# Altium footprint library Sampler_DIOT.PcbLib: 109 footprints (part 4 of 7)
Each footprint in its own frame and in the unit in brackets; x right, y up, seen from the top. Pads: shape width x height; smd on the part's side, far side on the other; paste and mask are expansions set on the pad; w line width, h text height; cw(c..) or ccw(c..) is an arc to the next point about the centre after c.
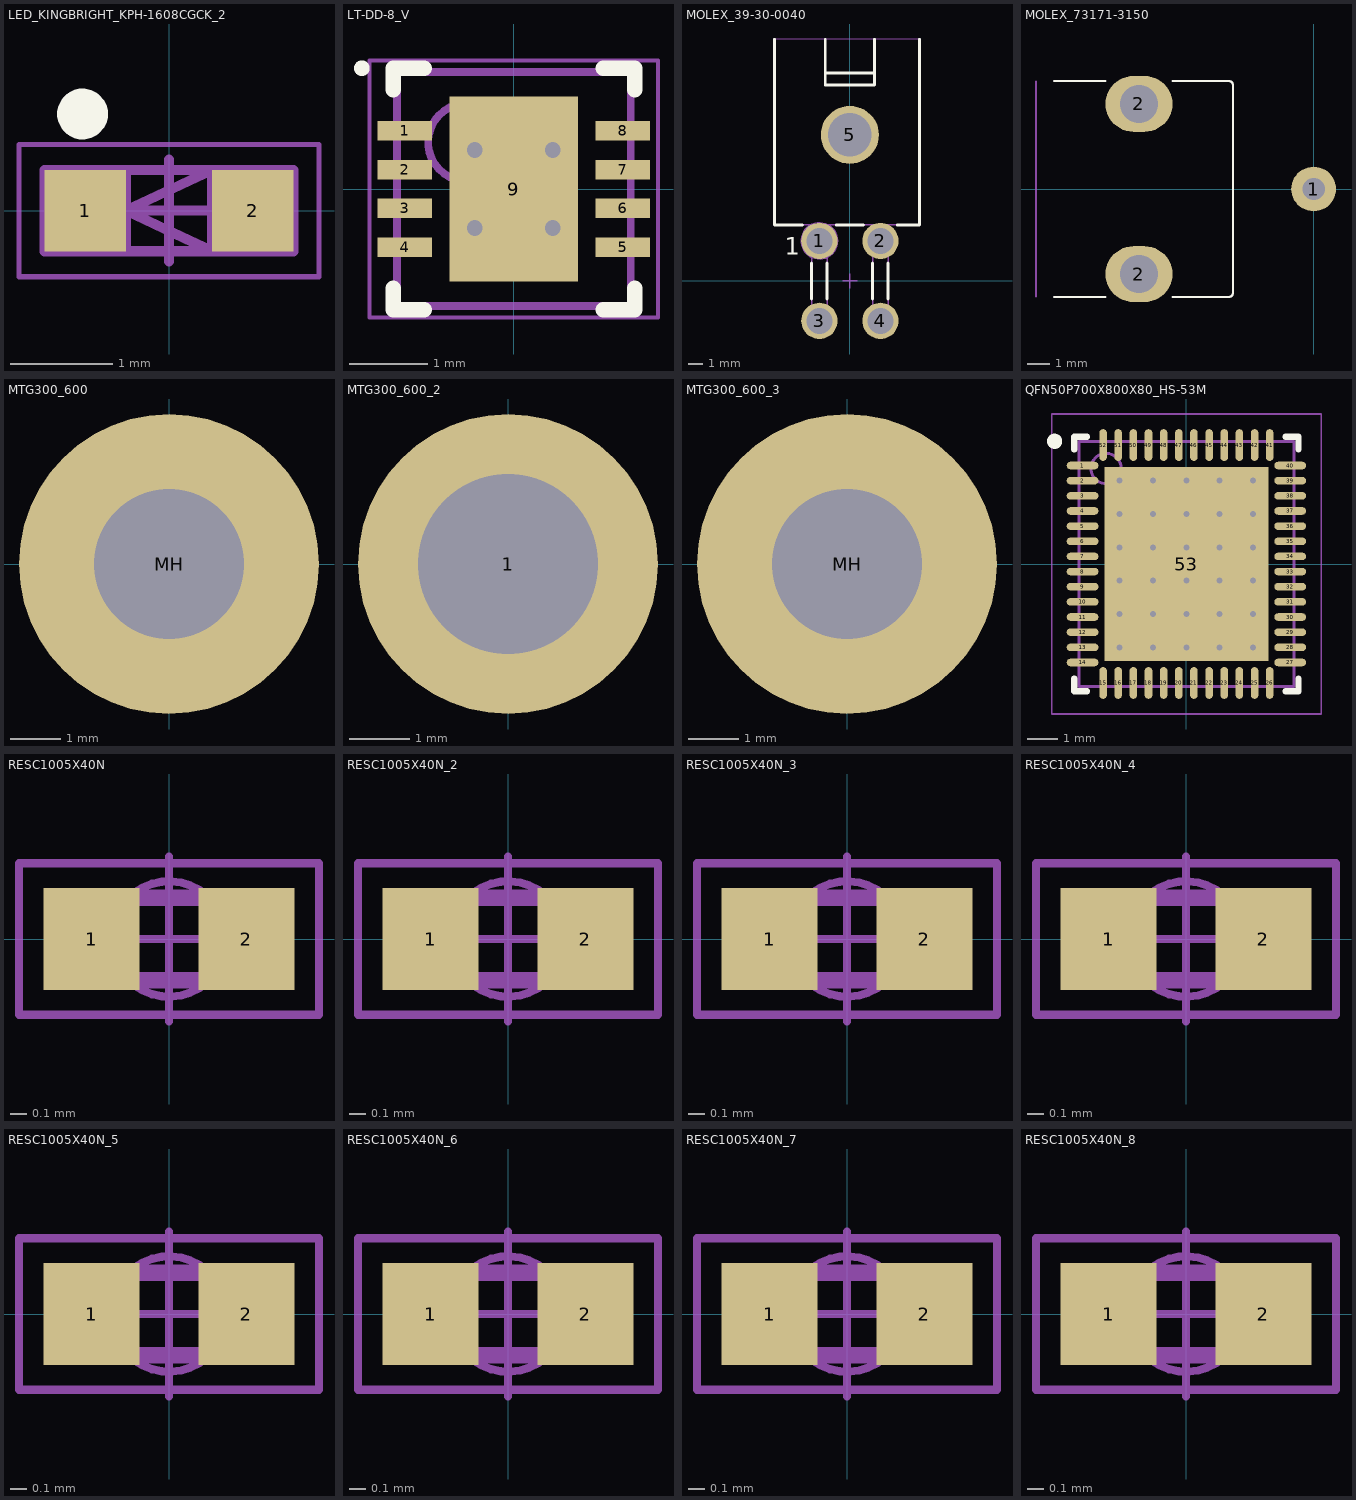
[diagram p3: the footprints below, top view; thin cyan lines are the x and y axes]

## LED_KINGBRIGHT_KPH-1608CGCK_2 [mm]
pads (2):
  rect 0.8x0.8 smd: 1(-0.825,0) 2(0.825,0)
Top Overlay:
  circle w0.25: c-0.85,0.95 r0.125
Mechanical 8:
  lines w0.1: -0.5,0 0,0 ; -0.425,0 0.425,0 ; 0,-0.5 0,0 ; 0,0.5 0,0 ; 0.5,0 0,0 ; -0.425,-0.4 -0.825,0 -0.425,0.4 ; -0.425,-0.4 -0.425,0.4 ; -0.425,-0.4 -1.225,-0.4 -1.225,0.4 -0.425,0.4 ; 1.225,-0.4 0.825,0 1.225,0.4 ; 1.225,-0.4 1.225,0.4 ; 1.225,-0.4 0.425,-0.4 0.425,0.4 1.225,0.4
Top Assembly:
  lines w0.1: -0.8,-0.4 0.8,-0.4 0.8,0.4 -0.8,0.4 -0.8,-0.4 ; -0.425,0 0.425,-0.4 0.425,0.4 -0.425,0
Top Courtyard:
  lines w0.05: -1.475,-0.65 1.475,-0.65 1.475,0.65 -1.475,0.65 -1.475,-0.65
3D body "LED_KINGBRIGHT_KPH-1608CGCK_Part2.stp": height 0.65, standoff 0.12, extent -0.6,-0.4 0.6,0.4
3D body "LED_KINGBRIGHT_KPH-1608CGCK_Part1.stp": height 0.2, standoff 0, extent -0.8,-0.4 0.8,0.4

## LT-DD-8_V [mm]
pads (9):
  rect 0.7x0.25 smd mask+0.15: 1(-1.4,0.75) 2(-1.4,0.25) 3(-1.4,-0.25) 4(-1.4,-0.75) 5(1.4,-0.75) 6(1.4,-0.25) 7(1.4,0.25) 8(1.4,0.75)
  rect 1.65x2.38 smd mask+0.2: 9(0,0)
via 0.5,-0.5 diameter 0.5 hole 0.2
via -0.5,-0.5 diameter 0.5 hole 0.2
via 0.5,0.5 diameter 0.5 hole 0.2
via -0.5,0.5 diameter 0.5 hole 0.2
Top Overlay:
  circle w0.1: c-1.95,1.55 r0.05
  lines w0.2: -1.55,-1.275 -1.55,-1.55 -1.15,-1.55 ; -1.55,1.275 -1.55,1.55 -1.15,1.55 ; 1.15,-1.55 1.55,-1.55 1.55,-1.275 ; 1.15,1.55 1.55,1.55 1.55,1.275
Top 3D Body:
  circle w0.1: c-0.6,0.6 r0.5
  lines w0.1: -1.5,-1.5 1.5,-1.5 1.5,1.5 -1.5,1.5 -1.5,-1.5
Top Courtyard:
  lines w0.05: -1.85,-1.65 1.85,-1.65 1.85,1.65 -1.85,1.65 -1.85,-1.65
  lines w0.1: -0.5,0 0.5,0 ; 0,-0.5 0,0.5
3D body: height 0.8, standoff 0, extent -1.5,-1.5 1.5,1.5

## MOLEX_39-30-0040 [mm]
pads (5):
  round 2.5 hole 1.8: 1(-2.1,2.75) 2(2.1,2.75) 3(-2.1,-2.75) 4(2.1,-2.75)
  round 4 hole 3 unplated mask+1: 5(0,10.05)
Top Overlay:
  lines w0.2: -5.2,16.63 -5.2,3.85 -3.262,3.85 ; -2.635,-1.242 -2.635,1.242 ; -1.7,14.3 1.7,14.3 ; -1.7,16.63 -1.7,13.478 1.7,13.478 1.7,16.63 ; -1.565,-1.242 -1.565,1.242 ; -0.938,3.85 0.938,3.85 ; 1.565,-1.242 1.565,1.242 ; 2.635,-1.242 2.635,1.242 ; 3.262,3.85 4.8,3.85 4.8,16.63
  text "1" at -4.475,1.8 h1.2
Mechanical 8:
  circle w0.1: c0,10.05 r1.5
  circle w0.1: c-2.1,2.75 r0.9
  circle w0.1: c-2.1,2.75 r1.25
  lines w0.1: -2.6,-2.75 -2.1,-2.75 ; -2.6,2.75 -2.1,2.75 ; -2.1,-3.25 -2.1,-2.75 ; -2.1,-2.25 -2.1,-2.75 ; -2.1,2.25 -2.1,2.75 ; -2.1,3.25 -2.1,2.75 ; -1.6,-2.75 -2.1,-2.75 ; -1.6,2.75 -2.1,2.75 ; -0.5,0 0,0 ; -0.5,10.05 0,10.05 ; 0,-0.5 0,0 ; 0,0.5 0,0 ; 0,9.55 0,10.05 ; 0,10.55 0,10.05 ; 0.5,0 0,0 ; 0.5,10.05 0,10.05 ; 1.6,-2.75 2.1,-2.75 ; 1.6,2.75 2.1,2.75 ; 2.1,-3.25 2.1,-2.75 ; 2.1,-2.25 2.1,-2.75 ; 2.1,2.25 2.1,2.75 ; 2.1,3.25 2.1,2.75 ; 2.6,-2.75 2.1,-2.75 ; 2.6,2.75 2.1,2.75
Top Assembly:
  lines w0.1: -2.635,3.85 -2.635,-3.285 -1.565,-3.285 -1.565,3.85 ; -1.7,14.3 1.7,14.3 ; -1.7,16.65 -1.7,13.478 1.7,13.478 1.7,16.65 ; 1.565,3.85 1.565,-3.285 2.635,-3.285 2.635,3.85 ; -5.2,3.85 4.8,3.85 4.8,16.65 -5.2,16.65 -5.2,3.85
  text "1" at -4.475,1.8 h1.2
3D body "MOLEX_39-30-0040.stp": height 11.4, standoff -3.6, extent -5.2,-3.285 4.8,16.65

## MOLEX_73171-3150 [mm]
pads (3):
  round 2 hole 1: 1(0,0)
  oval 3x2.5 hole 1.7: 2(-7.8,-3.8) 2(-7.8,3.8)
Top Overlay:
  lines w0.1: -11.596,-4.825 -9.3,-4.825 ; -11.596,4.825 -9.3,4.825 ; -6.3,-4.825 -3.8,-4.825 ccw(c-3.8,-4.625) -3.6,-4.625 -3.6,4.625 ccw(c-3.8,4.625) -3.8,4.825 -6.3,4.825
Top Assembly:
  lines w0.1: -12.4,-4.8 -12.4,4.8
  text "Board Edge" at -12.474,-2.308 h1
3D body "731713150.stp": height 9.3, standoff -2.99, extent -25.4,-4.825 0.15,4.825

## MTG300_600 [mm]
pads (1):
  round 6 hole 3: MH(0,0)

## MTG300_600_2 [mm]
pads (1):
  round 5 hole 3: 1(0,0)

## MTG300_600_3 [mm]
pads (1):
  round 6 hole 3: MH(0,0)

## QFN50P700X800X80_HS-53M [mm]
pads (53):
  oval 1.05x0.25 smd: 1(-3.425,3.25) 2(-3.425,2.75) 3(-3.425,2.25) 4(-3.425,1.75) 5(-3.425,1.25) 6(-3.425,0.75) 7(-3.425,0.25) 8(-3.425,-0.25) 9(-3.425,-0.75) 10(-3.425,-1.25) 11(-3.425,-1.75) 12(-3.425,-2.25) 13(-3.425,-2.75) 14(-3.425,-3.25) 27(3.425,-3.25) 28(3.425,-2.75) 29(3.425,-2.25) 30(3.425,-1.75) 31(3.425,-1.25) 32(3.425,-0.75) 33(3.425,-0.25) 34(3.425,0.25) 35(3.425,0.75) 36(3.425,1.25) 37(3.425,1.75) 38(3.425,2.25) 39(3.425,2.75) 40(3.425,3.25)
  oval 0.25x1.05 smd: 15(-2.75,-3.925) 16(-2.25,-3.925) 17(-1.75,-3.925) 18(-1.25,-3.925) 19(-0.75,-3.925) 20(-0.25,-3.925) 21(0.25,-3.925) 22(0.75,-3.925) 23(1.25,-3.925) 24(1.75,-3.925) 25(2.25,-3.925) 26(2.75,-3.925) 41(2.75,3.925) 42(2.25,3.925) 43(1.75,3.925) 44(1.25,3.925) 45(0.75,3.925) 46(0.25,3.925) 47(-0.25,3.925) 48(-0.75,3.925) 49(-1.25,3.925) 50(-1.75,3.925) 51(-2.25,3.925) 52(-2.75,3.925)
  rect 5.41x6.4 smd: 53(0,0)
via -2.2,2.75 diameter 0.5 hole 0.2
via -1.1,2.75 diameter 0.5 hole 0.2
via 0,2.75 diameter 0.5 hole 0.2
via 1.1,2.75 diameter 0.5 hole 0.2
via 2.2,2.75 diameter 0.5 hole 0.2
via -2.2,1.65 diameter 0.5 hole 0.2
via -1.1,1.65 diameter 0.5 hole 0.2
via 0,1.65 diameter 0.5 hole 0.2
via 1.1,1.65 diameter 0.5 hole 0.2
via 2.2,1.65 diameter 0.5 hole 0.2
via -2.2,0.55 diameter 0.5 hole 0.2
via -1.1,0.55 diameter 0.5 hole 0.2
via 0,0.55 diameter 0.5 hole 0.2
via 1.1,0.55 diameter 0.5 hole 0.2
via 2.2,0.55 diameter 0.5 hole 0.2
via -2.2,-0.55 diameter 0.5 hole 0.2
via -1.1,-0.55 diameter 0.5 hole 0.2
via 0,-0.55 diameter 0.5 hole 0.2
via 1.1,-0.55 diameter 0.5 hole 0.2
via 2.2,-0.55 diameter 0.5 hole 0.2
via -2.2,-1.65 diameter 0.5 hole 0.2
via -1.1,-1.65 diameter 0.5 hole 0.2
via 0,-1.65 diameter 0.5 hole 0.2
via 1.1,-1.65 diameter 0.5 hole 0.2
via 2.2,-1.65 diameter 0.5 hole 0.2
via -2.2,-2.75 diameter 0.5 hole 0.2
via -1.1,-2.75 diameter 0.5 hole 0.2
via 0,-2.75 diameter 0.5 hole 0.2
via 1.1,-2.75 diameter 0.5 hole 0.2
via 2.2,-2.75 diameter 0.5 hole 0.2
Top Overlay:
  circle w0.25: c-4.35,4.05 r0.125
  lines w0.2: -3.7,-3.775 -3.7,-4.2 -3.275,-4.2 ; -3.7,3.775 -3.7,4.2 -3.275,4.2 ; 3.275,-4.2 3.7,-4.2 3.7,-3.775 ; 3.275,4.2 3.7,4.2 3.7,3.775
Top Assembly:
  circle w0.1: c-2.65,3.15 r0.5
  lines w0.1: -3.55,-4.05 -3.55,4.05 3.55,4.05 3.55,-4.05 -3.55,-4.05
Top Courtyard:
  lines w0.05: -4.45,-4.95 -4.45,4.95 4.45,4.95 4.45,-4.95 -4.45,-4.95
  lines w0.1: -0.5,0 0.5,0 ; 0,-0.5 0,0.5
3D body "QFN50P700X800X80_HS-53M.step": height 0.8, standoff 0, extent -3.551,-4.051 3.551,4.051

## RESC1005X40N [mm]
pads (2):
  rect 0.58x0.62 smd: 1(-0.47,0) 2(0.47,0)
Top Assembly:
  lines w0.1: -0.5,-0.25 0.5,-0.25 0.5,0.25 -0.5,0.25 -0.5,-0.25
Top Courtyard:
  circle w0.05: c0,0 r0.35
  lines w0.05: -0.5,0 0.5,0 ; 0,-0.5 0,0.5 ; -0.91,-0.46 0.91,-0.46 0.91,0.46 -0.91,0.46 -0.91,-0.46
3D body "RESC1005X40N.stp": height 0.4, standoff 0, extent -0.525,-0.275 0.525,0.275

## RESC1005X40N_2 [mm]
pads (2):
  rect 0.58x0.62 smd: 1(-0.47,0) 2(0.47,0)
Top Assembly:
  lines w0.1: -0.5,-0.25 0.5,-0.25 0.5,0.25 -0.5,0.25 -0.5,-0.25
Top Courtyard:
  circle w0.05: c0,0 r0.35
  lines w0.05: -0.5,0 0.5,0 ; 0,-0.5 0,0.5 ; -0.91,-0.46 0.91,-0.46 0.91,0.46 -0.91,0.46 -0.91,-0.46
3D body "RESC1005X40N.stp": height 0.4, standoff 0, extent -0.525,-0.275 0.525,0.275

## RESC1005X40N_3 [mm]
pads (2):
  rect 0.58x0.62 smd: 1(-0.47,0) 2(0.47,0)
Top Assembly:
  lines w0.1: -0.5,-0.25 -0.5,0.25 0.5,0.25 0.5,-0.25 -0.5,-0.25
Top Courtyard:
  circle w0.05: c0,0 r0.35
  lines w0.05: -0.5,0 0.5,0 ; 0,-0.5 0,0.5 ; -0.91,-0.46 -0.91,0.46 0.91,0.46 0.91,-0.46 -0.91,-0.46
3D body "RESC1005X40N.stp": height 0.4, standoff 0, extent -0.525,-0.275 0.525,0.275

## RESC1005X40N_4 [mm]
pads (2):
  rect 0.58x0.62 smd: 1(-0.47,0) 2(0.47,0)
Top Assembly:
  lines w0.1: -0.5,-0.25 -0.5,0.25 0.5,0.25 0.5,-0.25 -0.5,-0.25
Top Courtyard:
  circle w0.05: c0,0 r0.35
  lines w0.05: -0.5,0 0.5,0 ; 0,-0.5 0,0.5 ; -0.91,-0.46 -0.91,0.46 0.91,0.46 0.91,-0.46 -0.91,-0.46
3D body "RESC1005X40N.stp": height 0.4, standoff 0, extent -0.525,-0.275 0.525,0.275

## RESC1005X40N_5 [mm]
pads (2):
  rect 0.58x0.62 smd: 1(-0.47,0) 2(0.47,0)
Top Assembly:
  lines w0.1: -0.5,-0.25 -0.5,0.25 0.5,0.25 0.5,-0.25 -0.5,-0.25
Top Courtyard:
  circle w0.05: c0,0 r0.35
  lines w0.05: -0.5,0 0.5,0 ; 0,-0.5 0,0.5 ; -0.91,-0.46 -0.91,0.46 0.91,0.46 0.91,-0.46 -0.91,-0.46
3D body "RESC1005X40N.stp": height 0.4, standoff 0, extent -0.525,-0.275 0.525,0.275

## RESC1005X40N_6 [mm]
pads (2):
  rect 0.58x0.62 smd: 1(-0.47,0) 2(0.47,0)
Top Assembly:
  lines w0.1: -0.5,-0.25 -0.5,0.25 0.5,0.25 0.5,-0.25 -0.5,-0.25
Top Courtyard:
  circle w0.05: c0,0 r0.35
  lines w0.05: -0.5,0 0.5,0 ; 0,-0.5 0,0.5 ; -0.91,-0.46 -0.91,0.46 0.91,0.46 0.91,-0.46 -0.91,-0.46
3D body "RESC1005X40N.stp": height 0.4, standoff 0, extent -0.525,-0.275 0.525,0.275

## RESC1005X40N_7 [mm]
pads (2):
  rect 0.58x0.62 smd: 1(-0.47,0) 2(0.47,0)
Top Assembly:
  lines w0.1: -0.5,-0.25 -0.5,0.25 0.5,0.25 0.5,-0.25 -0.5,-0.25
Top Courtyard:
  circle w0.05: c0,0 r0.35
  lines w0.05: -0.5,0 0.5,0 ; 0,-0.5 0,0.5 ; -0.91,-0.46 -0.91,0.46 0.91,0.46 0.91,-0.46 -0.91,-0.46
3D body "RESC1005X40N.stp": height 0.4, standoff 0, extent -0.525,-0.275 0.525,0.275

## RESC1005X40N_8 [mm]
pads (2):
  rect 0.58x0.62 smd: 1(-0.47,0) 2(0.47,0)
Top Assembly:
  lines w0.1: -0.5,-0.25 -0.5,0.25 0.5,0.25 0.5,-0.25 -0.5,-0.25
Top Courtyard:
  circle w0.05: c0,0 r0.35
  lines w0.05: -0.5,0 0.5,0 ; 0,-0.5 0,0.5 ; -0.91,-0.46 -0.91,0.46 0.91,0.46 0.91,-0.46 -0.91,-0.46
3D body "RESC1005X40N.stp": height 0.4, standoff 0, extent -0.525,-0.275 0.525,0.275